# EAGLE library part CC2540F256RHAR (library IC)
IC RF TXRX+MCU BLUETOOTH 40VFQFN Manufacturer's datasheet <http://www.ti.com/general/docs/suppproductinfo.tsp?distId=10&gotoUrl=http%3A%2F%2Fwww.ti.com%2Flit%2Fgpn%2Fcc2540>
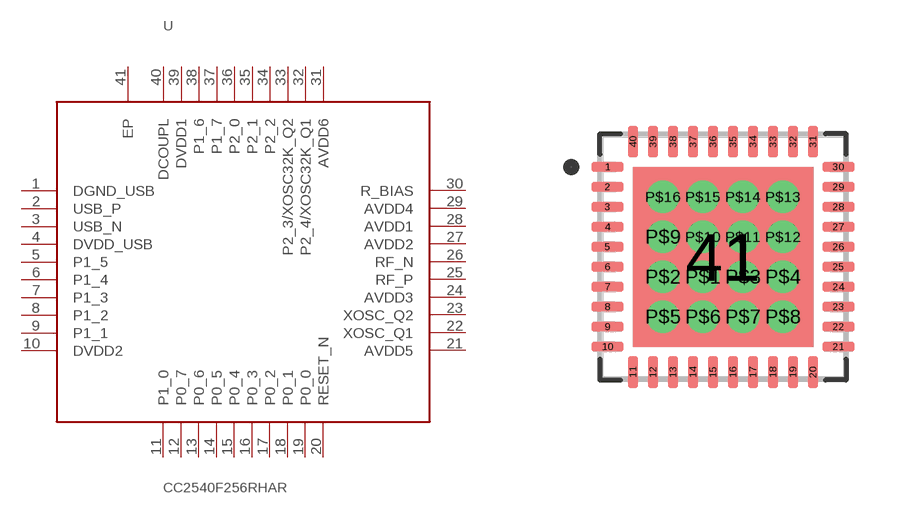
[diagram p20: symbol with the pads of VQFN-40; footprint VQFN-40]

Designator prefix U

## CC2540F256RHAR (CREATED_BY: PCBLayout.com; DIGI_KEY_PART_NUMBER: 296-28232-1-ND; MANUFACTURER: Texas Instruments; MPN: CC2540F256RHAR; PACKAGE: 40-VFQFN)  [VQFN-40]
1  DGND_USB  pwr
2  USB_P  pwr
3  USB_N  pwr
4  DVDD_USB  pwr
5  P1_5
6  P1_4
7  P1_3
8  P1_2
9  P1_1
10  DVDD2  pwr
11  P1_0
12  P0_7
13  P0_6
14  P0_5
15  P0_4
16  P0_3
17  P0_2
18  P0_1
19  P0_0
20  RESET_N
21  AVDD5  pwr
22  XOSC_Q1
23  XOSC_Q2
24  AVDD3
25  RF_P
26  RF_N
27  AVDD2  pwr
28  AVDD1  pwr
29  AVDD4  pwr
30  R_BIAS
31  AVDD6  pwr
32  P2_4/XOSC32K_Q1
33  P2_3/XOSC32K_Q2
34  P2_2
35  P2_1
36  P2_0
37  P1_7
38  P1_6
39  DVDD1  pwr
40  DCOUPL  pwr
41  EP  pwr

## Footprint VQFN-40 (pad centres in mm)
Quad Flat No-Lead (QFN with Tab), 0.50 mm pitch; square, 10 pin X 10 pin, 6.00 mm L X 6.00 mm W X 1.00 mm H body PCB Libraries Packages
smd 0.8 x 0.26: 1 -2.885,2.25; 2 -2.885,1.75; 3 -2.885,1.25; 4 -2.885,0.75; 5 -2.885,0.25; 6 -2.885,-0.25; 7 -2.885,-0.75; 8 -2.885,-1.25; 9 -2.885,-1.75; 10 -2.885,-2.25; 21 2.885,-2.25; 22 2.885,-1.75; 23 2.885,-1.25; 24 2.885,-0.75; 25 2.885,-0.25; 26 2.885,0.25; 27 2.885,0.75; 28 2.885,1.25; 29 2.885,1.75; 30 2.885,2.25
smd 0.26 x 0.8: 11 -2.25,-2.885; 12 -1.75,-2.885; 13 -1.25,-2.885; 14 -0.75,-2.885; 15 -0.25,-2.885; 16 0.25,-2.885; 17 0.75,-2.885; 18 1.25,-2.885; 19 1.75,-2.885; 20 2.25,-2.885; 31 2.25,2.885; 32 1.75,2.885; 33 1.25,2.885; 34 0.75,2.885; 35 0.25,2.885; 36 -0.25,2.885; 37 -0.75,2.885; 38 -1.25,2.885; 39 -1.75,2.885; 40 -2.25,2.885
smd 4.5 x 4.5: 41 0,0
drill 0.3: P$1 -0.5,-0.5; P$2 -1.5,-0.5; P$3 0.5,-0.5; P$4 1.5,-0.5; P$5 -1.5,-1.5; P$6 -0.5,-1.5; P$7 0.5,-1.5; P$8 1.5,-1.5; P$9 -1.5,0.5; P$10 -0.5,0.5; P$11 0.5,0.5; P$12 1.5,0.5; P$13 1.5,1.5; P$14 0.5,1.5; P$15 -0.5,1.5; P$16 -1.5,1.5